# Altium footprint library SOIC-8(5.85X7.50).PcbLib: 1 footprints
Each footprint in its own frame and in the unit in brackets; x right, y up, seen from the top. Pads: shape width x height; smd on the part's side, far side on the other; paste and mask are expansions set on the pad; w line width, h text height; cw(c..) or ccw(c..) is an arc to the next point about the centre after c.
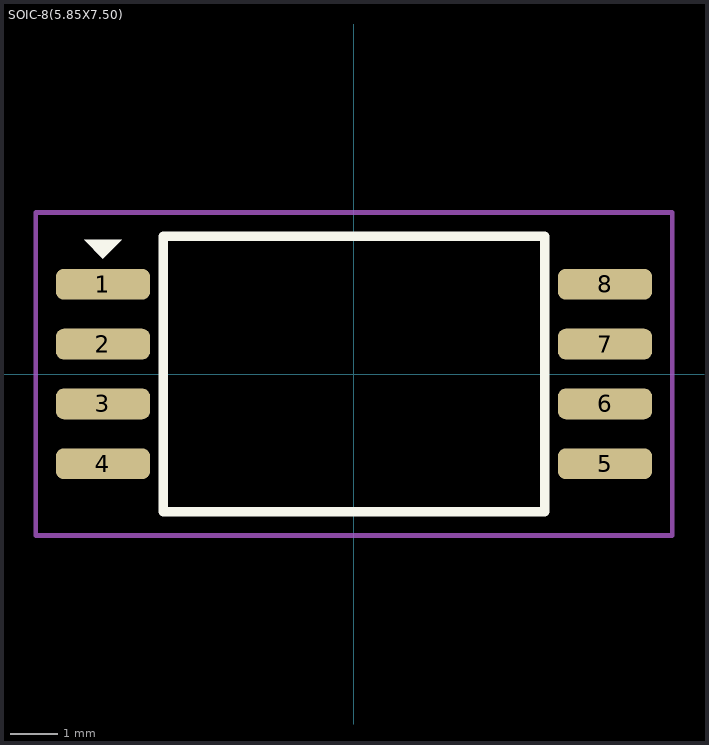
[diagram p0: the footprint, top view; thin cyan lines are the x and y axes]

## SOIC-8(5.85X7.50) [mm]
pads (8):
  rrect50% 2x0.65 smd: 1(-5.325,1.905) 2(-5.325,0.635) 3(-5.325,-0.635) 4(-5.325,-1.905) 5(5.325,-1.905) 6(5.325,-0.635) 7(5.325,0.635) 8(5.325,1.905)
Top Overlay:
  region: -5.725,2.85 -4.925,2.85 -5.325,2.45
  lines w0.2: -4.05,-2.925 -4.05,2.925 4.05,2.925 4.05,-2.925 -4.05,-2.925
Top Courtyard:
  lines w0.1: -6.75,-3.425 -4.65,-3.425 6.75,-3.425 6.75,3.425 -6.75,3.425 -6.75,-3.425
3D body "AMC1311DWVR.stp": height 2.67, standoff -0.03, extent -5.768,-2.925 5.768,2.925